# Altium footprint library LDO_Microchip_MCP1812AT-018_1V8.PcbLib: 1 footprints
Each footprint in its own frame and in the unit in brackets; x right, y up, seen from the top. Pads: shape width x height; smd on the part's side, far side on the other; paste and mask are expansions set on the pad; w line width, h text height; cw(c..) or ccw(c..) is an arc to the next point about the centre after c.
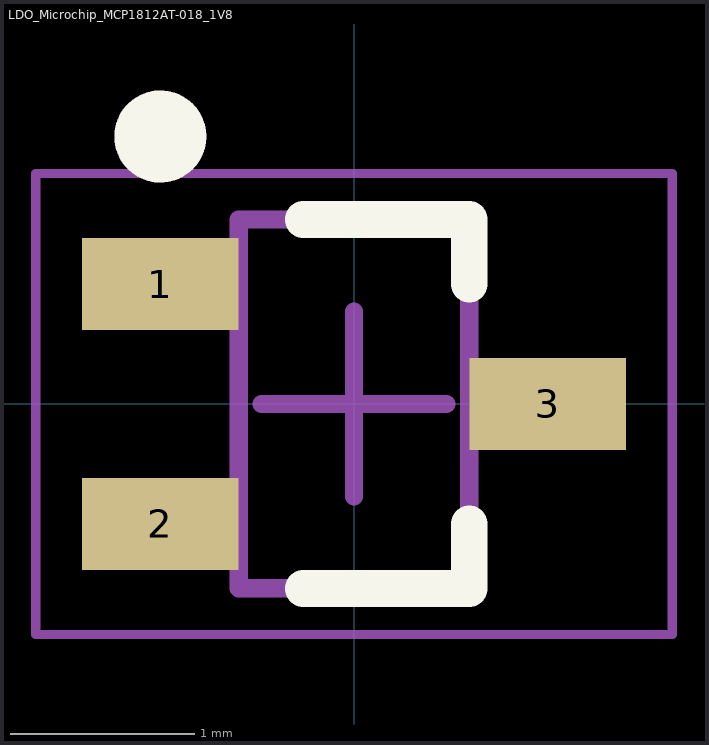
[diagram p0: the footprint, top view; thin cyan lines are the x and y axes]

## LDO_Microchip_MCP1812AT-018_1V8 [mm]
height 0.8
pads (3):
  rect 0.85x0.5 smd: 1(-1.05,0.65) 2(-1.05,-0.65) 3(1.05,0)
Top Overlay:
  circle w0.25: c-1.05,1.45 r0.125
  lines w0.2: -0.275,-1 0.625,-1 0.625,-0.65 ; -0.275,1 0.625,1 0.625,0.65
Mechanical 13:
  lines w0.1: -0.625,-1 0.625,-1 0.625,1 -0.625,1 -0.625,-1
Mechanical 15:
  lines w0.05: -1.725,-1.25 1.725,-1.25 1.725,1.25 -1.725,1.25 -1.725,-1.25
  lines w0.1: -0.5,0 0.5,0 ; 0,-0.5 0,0.5
3D body "SOT65P210X80-3N.step": height 0.8, standoff 0, extent -1.15,-1 1.15,1